# Altium schematic symbol library Allwinner_V3S.SCHLIB: 1 symbol
Pins are listed as number, name and electrical type; pins without a type are passive.

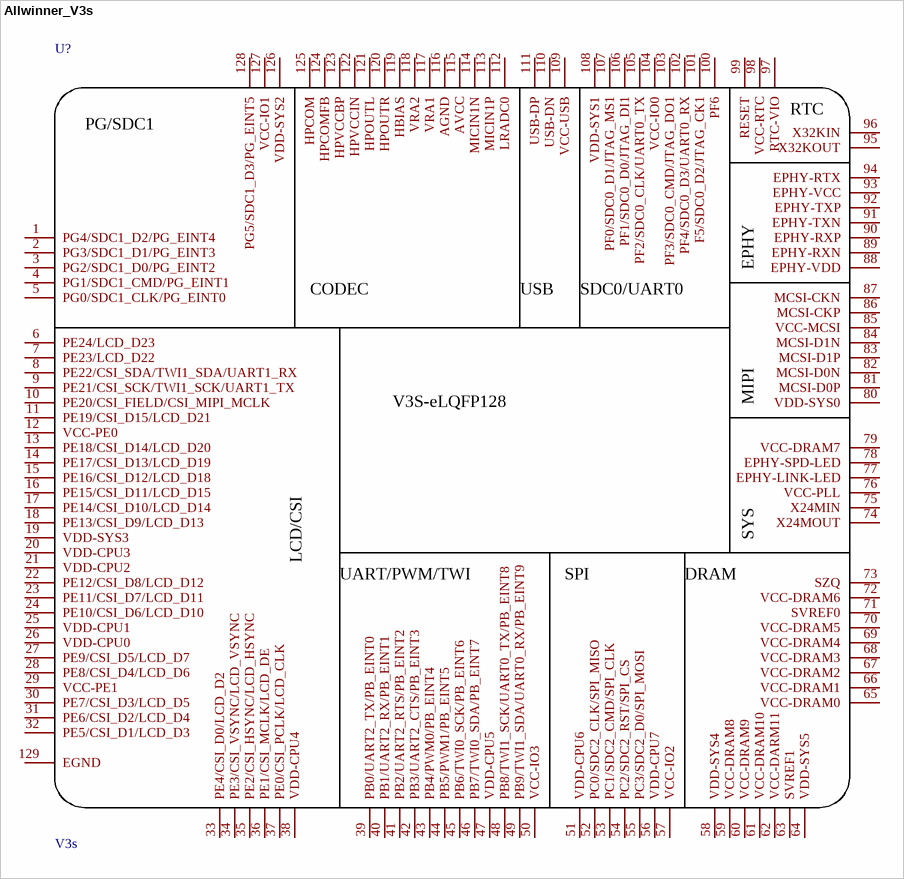
[diagram p0: symbol Allwinner_V3s]

## Allwinner_V3s
designator U?, comment V3s
Manufacturer: Allwinner(全志); Add into BOM: yes; Symbol: V3S; Device: V3s; Supplier: LCSC; Supplier Part: C2687449; Manufacturer Part: V3s; JLCPCB Part Class: 扩展库; LCSC Part Name: Allwinner V3s; Supplier Footprint: LQFP-128-EP(14x14); Convert to PCB: yes; CPU Core: -; GPIO Ports Number: -; Operating Voltage Range: -; CPU Maximum Speed: -; Program Memory Type: -; Operating Temperature Range: -; ADC (Bit): -; DAC (Bit): -; PWM (Bit): -; 8Bit Timer: -; 16Bit Timer: -; 32Bit Timer: -; CAN: -; UART/USART: -; I2C: -; I2S: -; SPI: -; Universal Serial Bus: -; Internal Comparator: -; Peripheral/Function: -; communication protocol: -; Watchdog: -; Real-Time Clock: -; Infrared Data Association: -; Low-Voltage Detect: -; CCP Capture/Compare: -; LCD Module: -; LED Module: -; Secure Digital Input and Output: -; Direct Memory Access: -; Internal Oscillator: -; Name: V3s
footprint LQFP-128_L14.0-W14.0-P0.40-LS16.0-BL-EP5.0
footprint LQFP-128_L14.0-W14.0-P0.40-LS16.0-BL-EP5.0
footprint LQFP-128_L14.0-W14.0-P0.40-LS16.0-BL-EP5.0
pins: 1 PG4/SDC1_D2/PG_EINT4, 2 PG3/SDC1_D1/PG_EINT3, 3 PG2/SDC1_D0/PG_EINT2, 4 PG1/SDC1_CMD/PG_EINT1, 5 PG0/SDC1_CLK/PG_EINT0, 6 PE24/LCD_D23, 7 PE23/LCD_D22, 8 PE22/CSI_SDA/TWI1_SDA/UART1_RX, 9 PE21/CSI_SCK/TWI1_SCK/UART1_TX, 10 PE20/CSI_FIELD/CSI_MIPI_MCLK, 11 PE19/CSI_D15/LCD_D21, 12 VCC-PE0, 13 PE18/CSI_D14/LCD_D20, 14 PE17/CSI_D13/LCD_D19, 15 PE16/CSI_D12/LCD_D18, 16 PE15/CSI_D11/LCD_D15, 17 PE14/CSI_D10/LCD_D14, 18 PE13/CSI_D9/LCD_D13, 19 VDD-SYS3, 20 VDD-CPU3, 21 VDD-CPU2, 22 PE12/CSI_D8/LCD_D12, 23 PE11/CSI_D7/LCD_D11, 24 PE10/CSI_D6/LCD_D10, 25 VDD-CPU1, 26 VDD-CPU0, 27 PE9/CSI_D5/LCD_D7, 28 PE8/CSI_D4/LCD_D6, 29 VCC-PE1, 30 PE7/CSI_D3/LCD_D5, 31 PE6/CSI_D2/LCD_D4, 32 PE5/CSI_D1/LCD_D3, 33 PE4/CSI_D0/LCD_D2, 34 PE3/CSI_VSYNC/LCD_VSYNC, 35 PE2/CSI_HSYNC/LCD_HSYNC, 36 PE1/CSI_MCLK/LCD_DE, 37 PE0/CSI_PCLK/LCD_CLK, 38 VDD-CPU4, 39 PB0/UART2_TX/PB_EINT0, 40 PB1/UART2_RX/PB_EINT1, 41 PB2/UART2_RTS/PB_EINT2, 42 PB3/UART2_CTS/PB_EINT3, 43 PB4/PWM0/PB_EINT4, 44 PB5/PWM1/PB_EINT5, 45 PB6/TWI0_SCK/PB_EINT6, 46 PB7/TWI0_SDA/PB_EINT7, 47 VDD-CPU5, 48 PB8/TWI1_SCK/UART0_TX/PB_EINT8, 49 PB9/TWI1_SDA/UART0_RX/PB_EINT9, 50 VCC-IO3, 51 VDD-CPU6, 52 PC0/SDC2_CLK/SPI_MISO, 53 PC1/SDC2_CMD/SPI_CLK, 54 PC2/SDC2_RST/SPI_CS, 55 PC3/SDC2_D0/SPI_MOSI, 56 VDD-CPU7, 57 VCC-IO2, 58 VDD-SYS4, 59 VCC-DRAM8, 60 VCC-DRAM9, 61 VCC-DRAM10, 62 VCC-DARM11, 63 SVREF1, 64 VDD-SYS5, 65 VCC-DRAM0, 66 VCC-DRAM1, 67 VCC-DRAM2, 68 VCC-DRAM3, 69 VCC-DRAM4, 70 VCC-DRAM5, 71 SVREF0, 72 VCC-DRAM6, 73 SZQ, 74 X24MOUT, 75 X24MIN, 76 VCC-PLL, 77 EPHY-LINK-LED, 78 EPHY-SPD-LED, 79 VCC-DRAM7, 80 VDD-SYS0, 81 MCSI-D0P, 82 MCSI-D0N, 83 MCSI-D1P, 84 MCSI-D1N, 85 VCC-MCSI, 86 MCSI-CKP, 87 MCSI-CKN, 88 EPHY-VDD, 89 EPHY-RXN, 90 EPHY-RXP, 91 EPHY-TXN, 92 EPHY-TXP, 93 EPHY-VCC, 94 EPHY-RTX, 95 X32KOUT, 96 X32KIN, 97 RTC-VIO, 98 VCC-RTC, 99 RESET, 100 PF6, 101 F5/SDC0_D2/JTAG_CK1, 102 PF4/SDC0_D3/UART0_RX, 103 PF3/SDC0_CMD/JTAG_DO1, 104 VCC-IO0, 105 PF2/SDC0_CLK/UART0_TX, 106 PF1/SDC0_D0/JTAG_DI1, 107 PF0/SDC0_D1/JTAG_MS1, 108 VDD-SYS1, 109 VCC-USB, 110 USB-DN, 111 USB-DP, 112 LRADC0, 113 MICIN1P, 114 MICIN1N, 115 AVCC, 116 AGND, 117 VRA1, 118 VRA2, 119 HBIAS, 120 HPOUTR, 121 HPOUTL, 122 HPVCCIN, 123 HPVCCBP, 124 HPCOMFB, 125 HPCOM, 126 VDD-SYS2, 127 VCC-IO1, 128 PG5/SDC1_D3/PG_EINT5, 129 EGND
text: RTC; PG/SDC1; EPHY; CODEC; USB; SDC0/UART0; MIPI; V3S-eLQFP128; SYS; LCD/CSI; UART/PWM/TWI; SPI; DRAM